# Altium footprint library Connector_Phoenix_MSTB.PcbLib: 180 footprints (part 7 of 12)
Each footprint in its own frame and in the unit in brackets; x right, y up, seen from the top. Pads: shape width x height; smd on the part's side, far side on the other; paste and mask are expansions set on the pad; w line width, h text height; cw(c..) or ccw(c..) is an arc to the next point about the centre after c.
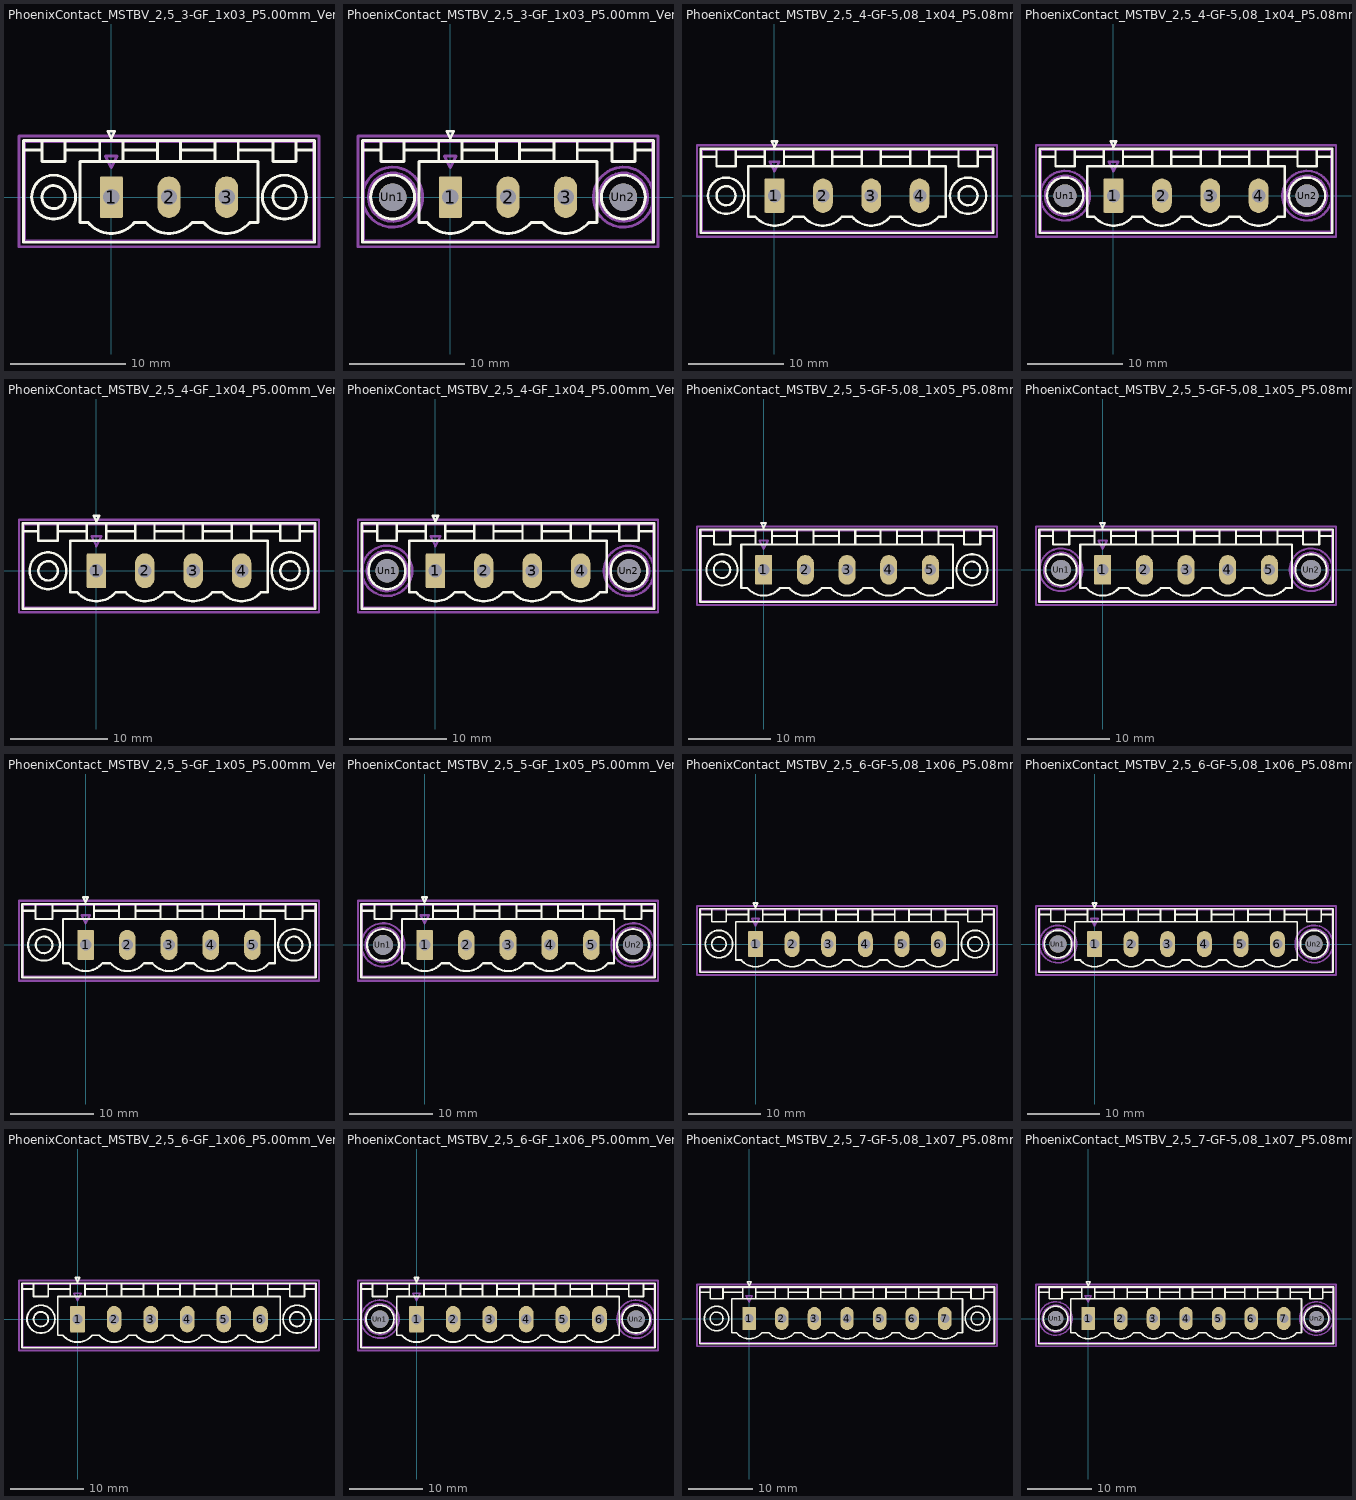
[diagram p6: the footprints below, top view; thin cyan lines are the x and y axes]

## PhoenixContact_MSTBV_2,5_3-GF_1x03_P5.00mm_Vertical_ThreadedFlange [mm]
pads (3):
  rrect12% 2x3.6 hole 1.4: 1(0,0)
  rrect100% 2x3.6 hole 1.4: 2(5,0) 3(10,0)
F.SilkS:
  circle w0.254: c15,0 r1.9
  circle w0.254: c15,0 r1
  circle w0.254: c-5,0 r1.9
  circle w0.254: c-5,0 r1
  lines w0.254: -7.61,4.1 -6.11,4.1 ; -4,4.1 -1,4.1 ; 1,4.1 4,4.1 ; 1.987,-2.216 cw(c0,-0.55) -2,-2.2 -2.7,-2.2 -2.7,3.1 12.7,3.1 12.7,-2.2 12,-2.2 ; 2,-2.2 3,-2.2 ccw(c5,-0.55) 6.987,-2.216 ; 6,4.1 9,4.1 ; 7,-2.2 8,-2.2 ccw(c10,-0.55) 11.987,-2.216 ; 11,4.1 14,4.1 ; 16.11,4.1 17.61,4.1 ; -7.61,-3.91 17.61,-3.91 17.61,4.91 -7.61,4.91 -7.61,-3.91 ; -6,3.1 -4,3.1 -4,4.91 -6,4.91 -6,3.1 ; -1,3.1 1,3.1 1,4.91 -1,4.91 -1,3.1 ; -0.3,5.71 0,5.11 0.3,5.71 -0.3,5.71 ; 4,3.1 6,3.1 6,4.91 4,4.91 4,3.1 ; 9,3.1 11,3.1 11,4.91 9,4.91 9,3.1 ; 14,3.1 16,3.1 16,4.91 14,4.91 14,3.1
Top Assembly:
  lines w0.254: -7.5,-3.8 17.5,-3.8 17.5,4.8 -7.5,4.8 -7.5,-3.8 ; -0.5,3.55 0,2.55 0.5,3.55 -0.5,3.55
  text "'.Designator'" at 0.953,3.26 h1
Top Courtyard:
  lines w0.254: -8,-4.3 18,-4.3 18,5.3 -8,5.3 -8,-4.3
Top Designator:
  text ".Designator" at -2.618,0.197 h1.52

## PhoenixContact_MSTBV_2,5_3-GF_1x03_P5.00mm_Vertical_ThreadedFlange_MountHole [mm]
pads (5):
  rrect12% 2x3.6 hole 1.4: 1(0,0)
  rrect100% 2x3.6 hole 1.4: 2(5,0) 3(10,0)
  round 2.4 hole 2.4: Un1(-5,0) Un2(15,0)
F.SilkS:
  circle w0.254: c15,0 r1.9
  circle w0.254: c-5,0 r1.9
  lines w0.254: -7.61,4.1 -6.11,4.1 ; -4,4.1 -1,4.1 ; 1,4.1 4,4.1 ; 1.987,-2.216 cw(c0,-0.55) -2,-2.2 -2.7,-2.2 -2.7,3.1 12.7,3.1 12.7,-2.2 12,-2.2 ; 2,-2.2 3,-2.2 ccw(c5,-0.55) 6.987,-2.216 ; 6,4.1 9,4.1 ; 7,-2.2 8,-2.2 ccw(c10,-0.55) 11.987,-2.216 ; 11,4.1 14,4.1 ; 16.11,4.1 17.61,4.1 ; -7.61,-3.91 17.61,-3.91 17.61,4.91 -7.61,4.91 -7.61,-3.91 ; -6,3.1 -4,3.1 -4,4.91 -6,4.91 -6,3.1 ; -1,3.1 1,3.1 1,4.91 -1,4.91 -1,3.1 ; -0.3,5.71 0,5.11 0.3,5.71 -0.3,5.71 ; 4,3.1 6,3.1 6,4.91 4,4.91 4,3.1 ; 9,3.1 11,3.1 11,4.91 9,4.91 9,3.1 ; 14,3.1 16,3.1 16,4.91 14,4.91 14,3.1
B.SilkS:
  circle w0.254: c15,0 r2.21
  circle w0.254: c-5,0 r2.21
Top Assembly:
  lines w0.254: -7.5,-3.8 17.5,-3.8 17.5,4.8 -7.5,4.8 -7.5,-3.8 ; -0.5,3.55 0,2.55 0.5,3.55 -0.5,3.55
  text "'.Designator'" at 0.953,3.26 h1
Bottom Assembly:
  circle w0.254: c15,0 r2.1
  circle w0.254: c-5,0 r2.1
Top Courtyard:
  lines w0.254: -8,-4.3 18,-4.3 18,5.3 -8,5.3 -8,-4.3
Bottom Courtyard:
  circle w0.254: c15,0 r2.6
  circle w0.254: c-5,0 r2.6
Top Designator:
  text ".Designator" at -2.618,0.197 h1.52

## PhoenixContact_MSTBV_2,5_4-GF-5,08_1x04_P5.08mm_Vertical_ThreadedFlange [mm]
pads (4):
  rrect12% 2.08x3.6 hole 1.4: 1(0,0)
  rrect100% 2.08x3.6 hole 1.4: 2(5.08,0) 3(10.16,0) 4(15.24,0)
F.SilkS:
  circle w0.254: c20.32,0 r1.9
  circle w0.254: c20.32,0 r1
  circle w0.254: c-5.08,0 r1.9
  circle w0.254: c-5.08,0 r1
  lines w0.254: -7.73,4.1 -6.19,4.1 ; -4.08,4.1 -1,4.1 ; 1,4.1 4.08,4.1 ; 1.987,-2.216 cw(c0,-0.55) -2,-2.2 -2.74,-2.2 -2.74,3.1 17.98,3.1 17.98,-2.2 17.24,-2.2 ; 2,-2.2 3.08,-2.2 ccw(c5.08,-0.55) 7.067,-2.216 ; 6.08,4.1 9.16,4.1 ; 7.08,-2.2 8.16,-2.2 ccw(c10.16,-0.55) 12.147,-2.216 ; 11.16,4.1 14.24,4.1 ; 12.16,-2.2 13.24,-2.2 ccw(c15.24,-0.55) 17.227,-2.216 ; 16.24,4.1 19.32,4.1 ; 21.43,4.1 22.97,4.1 ; -7.73,-3.91 22.97,-3.91 22.97,4.91 -7.73,4.91 -7.73,-3.91 ; -6.08,3.1 -4.08,3.1 -4.08,4.91 -6.08,4.91 -6.08,3.1 ; -1,3.1 1,3.1 1,4.91 -1,4.91 -1,3.1 ; -0.3,5.71 0,5.11 0.3,5.71 -0.3,5.71 ; 4.08,3.1 6.08,3.1 6.08,4.91 4.08,4.91 4.08,3.1 ; 9.16,3.1 11.16,3.1 11.16,4.91 9.16,4.91 9.16,3.1 ; 14.24,3.1 16.24,3.1 16.24,4.91 14.24,4.91 14.24,3.1 ; 19.32,3.1 21.32,3.1 21.32,4.91 19.32,4.91 19.32,3.1
Top Assembly:
  lines w0.254: -7.62,-3.8 22.86,-3.8 22.86,4.8 -7.62,4.8 -7.62,-3.8 ; -0.5,3.55 0,2.55 0.5,3.55 -0.5,3.55
  text "'.Designator'" at 3.573,3.26 h1
Top Courtyard:
  lines w0.254: -8.13,-4.3 23.36,-4.3 23.36,5.3 -8.13,5.3 -8.13,-4.3
Top Designator:
  text ".Designator" at -0.003,0.197 h1.52

## PhoenixContact_MSTBV_2,5_4-GF-5,08_1x04_P5.08mm_Vertical_ThreadedFlange_MountHole [mm]
pads (6):
  rrect12% 2.08x3.6 hole 1.4: 1(0,0)
  rrect100% 2.08x3.6 hole 1.4: 2(5.08,0) 3(10.16,0) 4(15.24,0)
  round 2.4 hole 2.4: Un1(-5.08,0) Un2(20.32,0)
F.SilkS:
  circle w0.254: c20.32,0 r1.9
  circle w0.254: c-5.08,0 r1.9
  lines w0.254: -7.73,4.1 -6.19,4.1 ; -4.08,4.1 -1,4.1 ; 1,4.1 4.08,4.1 ; 1.987,-2.216 cw(c0,-0.55) -2,-2.2 -2.74,-2.2 -2.74,3.1 17.98,3.1 17.98,-2.2 17.24,-2.2 ; 2,-2.2 3.08,-2.2 ccw(c5.08,-0.55) 7.067,-2.216 ; 6.08,4.1 9.16,4.1 ; 7.08,-2.2 8.16,-2.2 ccw(c10.16,-0.55) 12.147,-2.216 ; 11.16,4.1 14.24,4.1 ; 12.16,-2.2 13.24,-2.2 ccw(c15.24,-0.55) 17.227,-2.216 ; 16.24,4.1 19.32,4.1 ; 21.43,4.1 22.97,4.1 ; -7.73,-3.91 22.97,-3.91 22.97,4.91 -7.73,4.91 -7.73,-3.91 ; -6.08,3.1 -4.08,3.1 -4.08,4.91 -6.08,4.91 -6.08,3.1 ; -1,3.1 1,3.1 1,4.91 -1,4.91 -1,3.1 ; -0.3,5.71 0,5.11 0.3,5.71 -0.3,5.71 ; 4.08,3.1 6.08,3.1 6.08,4.91 4.08,4.91 4.08,3.1 ; 9.16,3.1 11.16,3.1 11.16,4.91 9.16,4.91 9.16,3.1 ; 14.24,3.1 16.24,3.1 16.24,4.91 14.24,4.91 14.24,3.1 ; 19.32,3.1 21.32,3.1 21.32,4.91 19.32,4.91 19.32,3.1
B.SilkS:
  circle w0.254: c20.32,0 r2.21
  circle w0.254: c-5.08,0 r2.21
Top Assembly:
  lines w0.254: -7.62,-3.8 22.86,-3.8 22.86,4.8 -7.62,4.8 -7.62,-3.8 ; -0.5,3.55 0,2.55 0.5,3.55 -0.5,3.55
  text "'.Designator'" at 3.573,3.26 h1
Bottom Assembly:
  circle w0.254: c20.32,0 r2.1
  circle w0.254: c-5.08,0 r2.1
Top Courtyard:
  lines w0.254: -8.13,-4.3 23.36,-4.3 23.36,5.3 -8.13,5.3 -8.13,-4.3
Bottom Courtyard:
  circle w0.254: c20.32,0 r2.6
  circle w0.254: c-5.08,0 r2.6
Top Designator:
  text ".Designator" at -0.003,0.197 h1.52

## PhoenixContact_MSTBV_2,5_4-GF_1x04_P5.00mm_Vertical_ThreadedFlange [mm]
pads (4):
  rrect12% 2x3.6 hole 1.4: 1(0,0)
  rrect100% 2x3.6 hole 1.4: 2(5,0) 3(10,0) 4(15,0)
F.SilkS:
  circle w0.254: c20,0 r1.9
  circle w0.254: c20,0 r1
  circle w0.254: c-5,0 r1.9
  circle w0.254: c-5,0 r1
  lines w0.254: -7.61,4.1 -6.11,4.1 ; -4,4.1 -1,4.1 ; 1,4.1 4,4.1 ; 1.987,-2.216 cw(c0,-0.55) -2,-2.2 -2.7,-2.2 -2.7,3.1 17.7,3.1 17.7,-2.2 17,-2.2 ; 2,-2.2 3,-2.2 ccw(c5,-0.55) 6.987,-2.216 ; 6,4.1 9,4.1 ; 7,-2.2 8,-2.2 ccw(c10,-0.55) 11.987,-2.216 ; 11,4.1 14,4.1 ; 12,-2.2 13,-2.2 ccw(c15,-0.55) 16.987,-2.216 ; 16,4.1 19,4.1 ; 21.11,4.1 22.61,4.1 ; -7.61,-3.91 22.61,-3.91 22.61,4.91 -7.61,4.91 -7.61,-3.91 ; -6,3.1 -4,3.1 -4,4.91 -6,4.91 -6,3.1 ; -1,3.1 1,3.1 1,4.91 -1,4.91 -1,3.1 ; -0.3,5.71 0,5.11 0.3,5.71 -0.3,5.71 ; 4,3.1 6,3.1 6,4.91 4,4.91 4,3.1 ; 9,3.1 11,3.1 11,4.91 9,4.91 9,3.1 ; 14,3.1 16,3.1 16,4.91 14,4.91 14,3.1 ; 19,3.1 21,3.1 21,4.91 19,4.91 19,3.1
Top Assembly:
  lines w0.254: -7.5,-3.8 22.5,-3.8 22.5,4.8 -7.5,4.8 -7.5,-3.8 ; -0.5,3.55 0,2.55 0.5,3.55 -0.5,3.55
  text "'.Designator'" at 3.453,3.26 h1
Top Courtyard:
  lines w0.254: -8,-4.3 23,-4.3 23,5.3 -8,5.3 -8,-4.3
Top Designator:
  text ".Designator" at -0.118,0.197 h1.52

## PhoenixContact_MSTBV_2,5_4-GF_1x04_P5.00mm_Vertical_ThreadedFlange_MountHole [mm]
pads (6):
  rrect12% 2x3.6 hole 1.4: 1(0,0)
  rrect100% 2x3.6 hole 1.4: 2(5,0) 3(10,0) 4(15,0)
  round 2.4 hole 2.4: Un1(-5,0) Un2(20,0)
F.SilkS:
  circle w0.254: c20,0 r1.9
  circle w0.254: c-5,0 r1.9
  lines w0.254: -7.61,4.1 -6.11,4.1 ; -4,4.1 -1,4.1 ; 1,4.1 4,4.1 ; 1.987,-2.216 cw(c0,-0.55) -2,-2.2 -2.7,-2.2 -2.7,3.1 17.7,3.1 17.7,-2.2 17,-2.2 ; 2,-2.2 3,-2.2 ccw(c5,-0.55) 6.987,-2.216 ; 6,4.1 9,4.1 ; 7,-2.2 8,-2.2 ccw(c10,-0.55) 11.987,-2.216 ; 11,4.1 14,4.1 ; 12,-2.2 13,-2.2 ccw(c15,-0.55) 16.987,-2.216 ; 16,4.1 19,4.1 ; 21.11,4.1 22.61,4.1 ; -7.61,-3.91 22.61,-3.91 22.61,4.91 -7.61,4.91 -7.61,-3.91 ; -6,3.1 -4,3.1 -4,4.91 -6,4.91 -6,3.1 ; -1,3.1 1,3.1 1,4.91 -1,4.91 -1,3.1 ; -0.3,5.71 0,5.11 0.3,5.71 -0.3,5.71 ; 4,3.1 6,3.1 6,4.91 4,4.91 4,3.1 ; 9,3.1 11,3.1 11,4.91 9,4.91 9,3.1 ; 14,3.1 16,3.1 16,4.91 14,4.91 14,3.1 ; 19,3.1 21,3.1 21,4.91 19,4.91 19,3.1
B.SilkS:
  circle w0.254: c20,0 r2.21
  circle w0.254: c-5,0 r2.21
Top Assembly:
  lines w0.254: -7.5,-3.8 22.5,-3.8 22.5,4.8 -7.5,4.8 -7.5,-3.8 ; -0.5,3.55 0,2.55 0.5,3.55 -0.5,3.55
  text "'.Designator'" at 3.453,3.26 h1
Bottom Assembly:
  circle w0.254: c20,0 r2.1
  circle w0.254: c-5,0 r2.1
Top Courtyard:
  lines w0.254: -8,-4.3 23,-4.3 23,5.3 -8,5.3 -8,-4.3
Bottom Courtyard:
  circle w0.254: c20,0 r2.6
  circle w0.254: c-5,0 r2.6
Top Designator:
  text ".Designator" at -0.118,0.197 h1.52

## PhoenixContact_MSTBV_2,5_5-GF-5,08_1x05_P5.08mm_Vertical_ThreadedFlange [mm]
pads (5):
  rrect12% 2.08x3.6 hole 1.4: 1(0,0)
  rrect100% 2.08x3.6 hole 1.4: 2(5.08,0) 3(10.16,0) 4(15.24,0) 5(20.32,0)
F.SilkS:
  circle w0.254: c25.4,0 r1.9
  circle w0.254: c25.4,0 r1
  circle w0.254: c-5.08,0 r1.9
  circle w0.254: c-5.08,0 r1
  lines w0.254: -7.73,4.1 -6.19,4.1 ; -4.08,4.1 -1,4.1 ; 1,4.1 4.08,4.1 ; 1.987,-2.216 cw(c0,-0.55) -2,-2.2 -2.74,-2.2 -2.74,3.1 23.06,3.1 23.06,-2.2 22.32,-2.2 ; 2,-2.2 3.08,-2.2 ccw(c5.08,-0.55) 7.067,-2.216 ; 6.08,4.1 9.16,4.1 ; 7.08,-2.2 8.16,-2.2 ccw(c10.16,-0.55) 12.147,-2.216 ; 11.16,4.1 14.24,4.1 ; 12.16,-2.2 13.24,-2.2 ccw(c15.24,-0.55) 17.227,-2.216 ; 16.24,4.1 19.32,4.1 ; 17.24,-2.2 18.32,-2.2 ccw(c20.32,-0.55) 22.307,-2.216 ; 21.32,4.1 24.4,4.1 ; 26.51,4.1 28.05,4.1 ; -7.73,-3.91 28.05,-3.91 28.05,4.91 -7.73,4.91 -7.73,-3.91 ; -6.08,3.1 -4.08,3.1 -4.08,4.91 -6.08,4.91 -6.08,3.1 ; -1,3.1 1,3.1 1,4.91 -1,4.91 -1,3.1 ; -0.3,5.71 0,5.11 0.3,5.71 -0.3,5.71 ; 4.08,3.1 6.08,3.1 6.08,4.91 4.08,4.91 4.08,3.1 ; 9.16,3.1 11.16,3.1 11.16,4.91 9.16,4.91 9.16,3.1 ; 14.24,3.1 16.24,3.1 16.24,4.91 14.24,4.91 14.24,3.1 ; 19.32,3.1 21.32,3.1 21.32,4.91 19.32,4.91 19.32,3.1 ; 24.4,3.1 26.4,3.1 26.4,4.91 24.4,4.91 24.4,3.1
Top Assembly:
  lines w0.254: -7.62,-3.8 27.94,-3.8 27.94,4.8 -7.62,4.8 -7.62,-3.8 ; -0.5,3.55 0,2.55 0.5,3.55 -0.5,3.55
  text "'.Designator'" at 6.113,3.26 h1
Top Courtyard:
  lines w0.254: -8.13,-4.3 28.44,-4.3 28.44,5.3 -8.13,5.3 -8.13,-4.3
Top Designator:
  text ".Designator" at 2.537,0.197 h1.52

## PhoenixContact_MSTBV_2,5_5-GF-5,08_1x05_P5.08mm_Vertical_ThreadedFlange_MountHole [mm]
pads (7):
  rrect12% 2.08x3.6 hole 1.4: 1(0,0)
  rrect100% 2.08x3.6 hole 1.4: 2(5.08,0) 3(10.16,0) 4(15.24,0) 5(20.32,0)
  round 2.4 hole 2.4: Un1(-5.08,0) Un2(25.4,0)
F.SilkS:
  circle w0.254: c25.4,0 r1.9
  circle w0.254: c-5.08,0 r1.9
  lines w0.254: -7.73,4.1 -6.19,4.1 ; -4.08,4.1 -1,4.1 ; 1,4.1 4.08,4.1 ; 1.987,-2.216 cw(c0,-0.55) -2,-2.2 -2.74,-2.2 -2.74,3.1 23.06,3.1 23.06,-2.2 22.32,-2.2 ; 2,-2.2 3.08,-2.2 ccw(c5.08,-0.55) 7.067,-2.216 ; 6.08,4.1 9.16,4.1 ; 7.08,-2.2 8.16,-2.2 ccw(c10.16,-0.55) 12.147,-2.216 ; 11.16,4.1 14.24,4.1 ; 12.16,-2.2 13.24,-2.2 ccw(c15.24,-0.55) 17.227,-2.216 ; 16.24,4.1 19.32,4.1 ; 17.24,-2.2 18.32,-2.2 ccw(c20.32,-0.55) 22.307,-2.216 ; 21.32,4.1 24.4,4.1 ; 26.51,4.1 28.05,4.1 ; -7.73,-3.91 28.05,-3.91 28.05,4.91 -7.73,4.91 -7.73,-3.91 ; -6.08,3.1 -4.08,3.1 -4.08,4.91 -6.08,4.91 -6.08,3.1 ; -1,3.1 1,3.1 1,4.91 -1,4.91 -1,3.1 ; -0.3,5.71 0,5.11 0.3,5.71 -0.3,5.71 ; 4.08,3.1 6.08,3.1 6.08,4.91 4.08,4.91 4.08,3.1 ; 9.16,3.1 11.16,3.1 11.16,4.91 9.16,4.91 9.16,3.1 ; 14.24,3.1 16.24,3.1 16.24,4.91 14.24,4.91 14.24,3.1 ; 19.32,3.1 21.32,3.1 21.32,4.91 19.32,4.91 19.32,3.1 ; 24.4,3.1 26.4,3.1 26.4,4.91 24.4,4.91 24.4,3.1
B.SilkS:
  circle w0.254: c25.4,0 r2.21
  circle w0.254: c-5.08,0 r2.21
Top Assembly:
  lines w0.254: -7.62,-3.8 27.94,-3.8 27.94,4.8 -7.62,4.8 -7.62,-3.8 ; -0.5,3.55 0,2.55 0.5,3.55 -0.5,3.55
  text "'.Designator'" at 6.113,3.26 h1
Bottom Assembly:
  circle w0.254: c25.4,0 r2.1
  circle w0.254: c-5.08,0 r2.1
Top Courtyard:
  lines w0.254: -8.13,-4.3 28.44,-4.3 28.44,5.3 -8.13,5.3 -8.13,-4.3
Bottom Courtyard:
  circle w0.254: c25.4,0 r2.6
  circle w0.254: c-5.08,0 r2.6
Top Designator:
  text ".Designator" at 2.537,0.197 h1.52

## PhoenixContact_MSTBV_2,5_5-GF_1x05_P5.00mm_Vertical_ThreadedFlange [mm]
pads (5):
  rrect12% 2x3.6 hole 1.4: 1(0,0)
  rrect100% 2x3.6 hole 1.4: 2(5,0) 3(10,0) 4(15,0) 5(20,0)
F.SilkS:
  circle w0.254: c25,0 r1.9
  circle w0.254: c25,0 r1
  circle w0.254: c-5,0 r1.9
  circle w0.254: c-5,0 r1
  lines w0.254: -7.61,4.1 -6.11,4.1 ; -4,4.1 -1,4.1 ; 1,4.1 4,4.1 ; 1.987,-2.216 cw(c0,-0.55) -2,-2.2 -2.7,-2.2 -2.7,3.1 22.7,3.1 22.7,-2.2 22,-2.2 ; 2,-2.2 3,-2.2 ccw(c5,-0.55) 6.987,-2.216 ; 6,4.1 9,4.1 ; 7,-2.2 8,-2.2 ccw(c10,-0.55) 11.987,-2.216 ; 11,4.1 14,4.1 ; 12,-2.2 13,-2.2 ccw(c15,-0.55) 16.987,-2.216 ; 16,4.1 19,4.1 ; 17,-2.2 18,-2.2 ccw(c20,-0.55) 21.987,-2.216 ; 21,4.1 24,4.1 ; 26.11,4.1 27.61,4.1 ; -7.61,-3.91 27.61,-3.91 27.61,4.91 -7.61,4.91 -7.61,-3.91 ; -6,3.1 -4,3.1 -4,4.91 -6,4.91 -6,3.1 ; -1,3.1 1,3.1 1,4.91 -1,4.91 -1,3.1 ; -0.3,5.71 0,5.11 0.3,5.71 -0.3,5.71 ; 4,3.1 6,3.1 6,4.91 4,4.91 4,3.1 ; 9,3.1 11,3.1 11,4.91 9,4.91 9,3.1 ; 14,3.1 16,3.1 16,4.91 14,4.91 14,3.1 ; 19,3.1 21,3.1 21,4.91 19,4.91 19,3.1 ; 24,3.1 26,3.1 26,4.91 24,4.91 24,3.1
Top Assembly:
  lines w0.254: -7.5,-3.8 27.5,-3.8 27.5,4.8 -7.5,4.8 -7.5,-3.8 ; -0.5,3.55 0,2.55 0.5,3.55 -0.5,3.55
  text "'.Designator'" at 5.953,3.26 h1
Top Courtyard:
  lines w0.254: -8,-4.3 28,-4.3 28,5.3 -8,5.3 -8,-4.3
Top Designator:
  text ".Designator" at 2.382,0.197 h1.52

## PhoenixContact_MSTBV_2,5_5-GF_1x05_P5.00mm_Vertical_ThreadedFlange_MountHole [mm]
pads (7):
  rrect12% 2x3.6 hole 1.4: 1(0,0)
  rrect100% 2x3.6 hole 1.4: 2(5,0) 3(10,0) 4(15,0) 5(20,0)
  round 2.4 hole 2.4: Un1(-5,0) Un2(25,0)
F.SilkS:
  circle w0.254: c25,0 r1.9
  circle w0.254: c-5,0 r1.9
  lines w0.254: -7.61,4.1 -6.11,4.1 ; -4,4.1 -1,4.1 ; 1,4.1 4,4.1 ; 1.987,-2.216 cw(c0,-0.55) -2,-2.2 -2.7,-2.2 -2.7,3.1 22.7,3.1 22.7,-2.2 22,-2.2 ; 2,-2.2 3,-2.2 ccw(c5,-0.55) 6.987,-2.216 ; 6,4.1 9,4.1 ; 7,-2.2 8,-2.2 ccw(c10,-0.55) 11.987,-2.216 ; 11,4.1 14,4.1 ; 12,-2.2 13,-2.2 ccw(c15,-0.55) 16.987,-2.216 ; 16,4.1 19,4.1 ; 17,-2.2 18,-2.2 ccw(c20,-0.55) 21.987,-2.216 ; 21,4.1 24,4.1 ; 26.11,4.1 27.61,4.1 ; -7.61,-3.91 27.61,-3.91 27.61,4.91 -7.61,4.91 -7.61,-3.91 ; -6,3.1 -4,3.1 -4,4.91 -6,4.91 -6,3.1 ; -1,3.1 1,3.1 1,4.91 -1,4.91 -1,3.1 ; -0.3,5.71 0,5.11 0.3,5.71 -0.3,5.71 ; 4,3.1 6,3.1 6,4.91 4,4.91 4,3.1 ; 9,3.1 11,3.1 11,4.91 9,4.91 9,3.1 ; 14,3.1 16,3.1 16,4.91 14,4.91 14,3.1 ; 19,3.1 21,3.1 21,4.91 19,4.91 19,3.1 ; 24,3.1 26,3.1 26,4.91 24,4.91 24,3.1
B.SilkS:
  circle w0.254: c25,0 r2.21
  circle w0.254: c-5,0 r2.21
Top Assembly:
  lines w0.254: -7.5,-3.8 27.5,-3.8 27.5,4.8 -7.5,4.8 -7.5,-3.8 ; -0.5,3.55 0,2.55 0.5,3.55 -0.5,3.55
  text "'.Designator'" at 5.953,3.26 h1
Bottom Assembly:
  circle w0.254: c25,0 r2.1
  circle w0.254: c-5,0 r2.1
Top Courtyard:
  lines w0.254: -8,-4.3 28,-4.3 28,5.3 -8,5.3 -8,-4.3
Bottom Courtyard:
  circle w0.254: c25,0 r2.6
  circle w0.254: c-5,0 r2.6
Top Designator:
  text ".Designator" at 2.382,0.197 h1.52

## PhoenixContact_MSTBV_2,5_6-GF-5,08_1x06_P5.08mm_Vertical_ThreadedFlange [mm]
pads (6):
  rrect12% 2.08x3.6 hole 1.4: 1(0,0)
  rrect100% 2.08x3.6 hole 1.4: 2(5.08,0) 3(10.16,0) 4(15.24,0) 5(20.32,0) 6(25.4,0)
F.SilkS:
  circle w0.254: c30.48,0 r1.9
  circle w0.254: c30.48,0 r1
  circle w0.254: c-5.08,0 r1.9
  circle w0.254: c-5.08,0 r1
  lines w0.254: -7.73,4.1 -6.19,4.1 ; -4.08,4.1 -1,4.1 ; 1,4.1 4.08,4.1 ; 1.987,-2.216 cw(c0,-0.55) -2,-2.2 -2.74,-2.2 -2.74,3.1 28.14,3.1 28.14,-2.2 27.4,-2.2 ; 2,-2.2 3.08,-2.2 ccw(c5.08,-0.55) 7.067,-2.216 ; 6.08,4.1 9.16,4.1 ; 7.08,-2.2 8.16,-2.2 ccw(c10.16,-0.55) 12.147,-2.216 ; 11.16,4.1 14.24,4.1 ; 12.16,-2.2 13.24,-2.2 ccw(c15.24,-0.55) 17.227,-2.216 ; 16.24,4.1 19.32,4.1 ; 17.24,-2.2 18.32,-2.2 ccw(c20.32,-0.55) 22.307,-2.216 ; 21.32,4.1 24.4,4.1 ; 22.32,-2.2 23.4,-2.2 ccw(c25.4,-0.55) 27.387,-2.216 ; 26.4,4.1 29.48,4.1 ; 31.59,4.1 33.13,4.1 ; -7.73,-3.91 33.13,-3.91 33.13,4.91 -7.73,4.91 -7.73,-3.91 ; -6.08,3.1 -4.08,3.1 -4.08,4.91 -6.08,4.91 -6.08,3.1 ; -1,3.1 1,3.1 1,4.91 -1,4.91 -1,3.1 ; -0.3,5.71 0,5.11 0.3,5.71 -0.3,5.71 ; 4.08,3.1 6.08,3.1 6.08,4.91 4.08,4.91 4.08,3.1 ; 9.16,3.1 11.16,3.1 11.16,4.91 9.16,4.91 9.16,3.1 ; 14.24,3.1 16.24,3.1 16.24,4.91 14.24,4.91 14.24,3.1 ; 19.32,3.1 21.32,3.1 21.32,4.91 19.32,4.91 19.32,3.1 ; 24.4,3.1 26.4,3.1 26.4,4.91 24.4,4.91 24.4,3.1 ; 29.48,3.1 31.48,3.1 31.48,4.91 29.48,4.91 29.48,3.1
Top Assembly:
  lines w0.254: -7.62,-3.8 33.02,-3.8 33.02,4.8 -7.62,4.8 -7.62,-3.8 ; -0.5,3.55 0,2.55 0.5,3.55 -0.5,3.55
  text "'.Designator'" at 8.653,3.26 h1
Top Courtyard:
  lines w0.254: -8.13,-4.3 33.53,-4.3 33.53,5.3 -8.13,5.3 -8.13,-4.3
Top Designator:
  text ".Designator" at 5.082,0.197 h1.52

## PhoenixContact_MSTBV_2,5_6-GF-5,08_1x06_P5.08mm_Vertical_ThreadedFlange_MountHole [mm]
pads (8):
  rrect12% 2.08x3.6 hole 1.4: 1(0,0)
  rrect100% 2.08x3.6 hole 1.4: 2(5.08,0) 3(10.16,0) 4(15.24,0) 5(20.32,0) 6(25.4,0)
  round 2.4 hole 2.4: Un1(-5.08,0) Un2(30.48,0)
F.SilkS:
  circle w0.254: c30.48,0 r1.9
  circle w0.254: c-5.08,0 r1.9
  lines w0.254: -7.73,4.1 -6.19,4.1 ; -4.08,4.1 -1,4.1 ; 1,4.1 4.08,4.1 ; 1.987,-2.216 cw(c0,-0.55) -2,-2.2 -2.74,-2.2 -2.74,3.1 28.14,3.1 28.14,-2.2 27.4,-2.2 ; 2,-2.2 3.08,-2.2 ccw(c5.08,-0.55) 7.067,-2.216 ; 6.08,4.1 9.16,4.1 ; 7.08,-2.2 8.16,-2.2 ccw(c10.16,-0.55) 12.147,-2.216 ; 11.16,4.1 14.24,4.1 ; 12.16,-2.2 13.24,-2.2 ccw(c15.24,-0.55) 17.227,-2.216 ; 16.24,4.1 19.32,4.1 ; 17.24,-2.2 18.32,-2.2 ccw(c20.32,-0.55) 22.307,-2.216 ; 21.32,4.1 24.4,4.1 ; 22.32,-2.2 23.4,-2.2 ccw(c25.4,-0.55) 27.387,-2.216 ; 26.4,4.1 29.48,4.1 ; 31.59,4.1 33.13,4.1 ; -7.73,-3.91 33.13,-3.91 33.13,4.91 -7.73,4.91 -7.73,-3.91 ; -6.08,3.1 -4.08,3.1 -4.08,4.91 -6.08,4.91 -6.08,3.1 ; -1,3.1 1,3.1 1,4.91 -1,4.91 -1,3.1 ; -0.3,5.71 0,5.11 0.3,5.71 -0.3,5.71 ; 4.08,3.1 6.08,3.1 6.08,4.91 4.08,4.91 4.08,3.1 ; 9.16,3.1 11.16,3.1 11.16,4.91 9.16,4.91 9.16,3.1 ; 14.24,3.1 16.24,3.1 16.24,4.91 14.24,4.91 14.24,3.1 ; 19.32,3.1 21.32,3.1 21.32,4.91 19.32,4.91 19.32,3.1 ; 24.4,3.1 26.4,3.1 26.4,4.91 24.4,4.91 24.4,3.1 ; 29.48,3.1 31.48,3.1 31.48,4.91 29.48,4.91 29.48,3.1
B.SilkS:
  circle w0.254: c30.48,0 r2.21
  circle w0.254: c-5.08,0 r2.21
Top Assembly:
  lines w0.254: -7.62,-3.8 33.02,-3.8 33.02,4.8 -7.62,4.8 -7.62,-3.8 ; -0.5,3.55 0,2.55 0.5,3.55 -0.5,3.55
  text "'.Designator'" at 8.653,3.26 h1
Bottom Assembly:
  circle w0.254: c30.48,0 r2.1
  circle w0.254: c-5.08,0 r2.1
Top Courtyard:
  lines w0.254: -8.13,-4.3 33.53,-4.3 33.53,5.3 -8.13,5.3 -8.13,-4.3
Bottom Courtyard:
  circle w0.254: c30.48,0 r2.6
  circle w0.254: c-5.08,0 r2.6
Top Designator:
  text ".Designator" at 5.082,0.197 h1.52

## PhoenixContact_MSTBV_2,5_6-GF_1x06_P5.00mm_Vertical_ThreadedFlange [mm]
pads (6):
  rrect12% 2x3.6 hole 1.4: 1(0,0)
  rrect100% 2x3.6 hole 1.4: 2(5,0) 3(10,0) 4(15,0) 5(20,0) 6(25,0)
F.SilkS:
  circle w0.254: c30,0 r1.9
  circle w0.254: c30,0 r1
  circle w0.254: c-5,0 r1.9
  circle w0.254: c-5,0 r1
  lines w0.254: -7.61,4.1 -6.11,4.1 ; -4,4.1 -1,4.1 ; 1,4.1 4,4.1 ; 1.987,-2.216 cw(c0,-0.55) -2,-2.2 -2.7,-2.2 -2.7,3.1 27.7,3.1 27.7,-2.2 27,-2.2 ; 2,-2.2 3,-2.2 ccw(c5,-0.55) 6.987,-2.216 ; 6,4.1 9,4.1 ; 7,-2.2 8,-2.2 ccw(c10,-0.55) 11.987,-2.216 ; 11,4.1 14,4.1 ; 12,-2.2 13,-2.2 ccw(c15,-0.55) 16.987,-2.216 ; 16,4.1 19,4.1 ; 17,-2.2 18,-2.2 ccw(c20,-0.55) 21.987,-2.216 ; 21,4.1 24,4.1 ; 22,-2.2 23,-2.2 ccw(c25,-0.55) 26.987,-2.216 ; 26,4.1 29,4.1 ; 31.11,4.1 32.61,4.1 ; -7.61,-3.91 32.61,-3.91 32.61,4.91 -7.61,4.91 -7.61,-3.91 ; -6,3.1 -4,3.1 -4,4.91 -6,4.91 -6,3.1 ; -1,3.1 1,3.1 1,4.91 -1,4.91 -1,3.1 ; -0.3,5.71 0,5.11 0.3,5.71 -0.3,5.71 ; 4,3.1 6,3.1 6,4.91 4,4.91 4,3.1 ; 9,3.1 11,3.1 11,4.91 9,4.91 9,3.1 ; 14,3.1 16,3.1 16,4.91 14,4.91 14,3.1 ; 19,3.1 21,3.1 21,4.91 19,4.91 19,3.1 ; 24,3.1 26,3.1 26,4.91 24,4.91 24,3.1 ; 29,3.1 31,3.1 31,4.91 29,4.91 29,3.1
Top Assembly:
  lines w0.254: -7.5,-3.8 32.5,-3.8 32.5,4.8 -7.5,4.8 -7.5,-3.8 ; -0.5,3.55 0,2.55 0.5,3.55 -0.5,3.55
  text "'.Designator'" at 8.453,3.26 h1
Top Courtyard:
  lines w0.254: -8,-4.3 33,-4.3 33,5.3 -8,5.3 -8,-4.3
Top Designator:
  text ".Designator" at 4.882,0.197 h1.52

## PhoenixContact_MSTBV_2,5_6-GF_1x06_P5.00mm_Vertical_ThreadedFlange_MountHole [mm]
pads (8):
  rrect12% 2x3.6 hole 1.4: 1(0,0)
  rrect100% 2x3.6 hole 1.4: 2(5,0) 3(10,0) 4(15,0) 5(20,0) 6(25,0)
  round 2.4 hole 2.4: Un1(-5,0) Un2(30,0)
F.SilkS:
  circle w0.254: c30,0 r1.9
  circle w0.254: c-5,0 r1.9
  lines w0.254: -7.61,4.1 -6.11,4.1 ; -4,4.1 -1,4.1 ; 1,4.1 4,4.1 ; 1.987,-2.216 cw(c0,-0.55) -2,-2.2 -2.7,-2.2 -2.7,3.1 27.7,3.1 27.7,-2.2 27,-2.2 ; 2,-2.2 3,-2.2 ccw(c5,-0.55) 6.987,-2.216 ; 6,4.1 9,4.1 ; 7,-2.2 8,-2.2 ccw(c10,-0.55) 11.987,-2.216 ; 11,4.1 14,4.1 ; 12,-2.2 13,-2.2 ccw(c15,-0.55) 16.987,-2.216 ; 16,4.1 19,4.1 ; 17,-2.2 18,-2.2 ccw(c20,-0.55) 21.987,-2.216 ; 21,4.1 24,4.1 ; 22,-2.2 23,-2.2 ccw(c25,-0.55) 26.987,-2.216 ; 26,4.1 29,4.1 ; 31.11,4.1 32.61,4.1 ; -7.61,-3.91 32.61,-3.91 32.61,4.91 -7.61,4.91 -7.61,-3.91 ; -6,3.1 -4,3.1 -4,4.91 -6,4.91 -6,3.1 ; -1,3.1 1,3.1 1,4.91 -1,4.91 -1,3.1 ; -0.3,5.71 0,5.11 0.3,5.71 -0.3,5.71 ; 4,3.1 6,3.1 6,4.91 4,4.91 4,3.1 ; 9,3.1 11,3.1 11,4.91 9,4.91 9,3.1 ; 14,3.1 16,3.1 16,4.91 14,4.91 14,3.1 ; 19,3.1 21,3.1 21,4.91 19,4.91 19,3.1 ; 24,3.1 26,3.1 26,4.91 24,4.91 24,3.1 ; 29,3.1 31,3.1 31,4.91 29,4.91 29,3.1
B.SilkS:
  circle w0.254: c30,0 r2.21
  circle w0.254: c-5,0 r2.21
Top Assembly:
  lines w0.254: -7.5,-3.8 32.5,-3.8 32.5,4.8 -7.5,4.8 -7.5,-3.8 ; -0.5,3.55 0,2.55 0.5,3.55 -0.5,3.55
  text "'.Designator'" at 8.453,3.26 h1
Bottom Assembly:
  circle w0.254: c30,0 r2.1
  circle w0.254: c-5,0 r2.1
Top Courtyard:
  lines w0.254: -8,-4.3 33,-4.3 33,5.3 -8,5.3 -8,-4.3
Bottom Courtyard:
  circle w0.254: c30,0 r2.6
  circle w0.254: c-5,0 r2.6
Top Designator:
  text ".Designator" at 4.882,0.197 h1.52

## PhoenixContact_MSTBV_2,5_7-GF-5,08_1x07_P5.08mm_Vertical_ThreadedFlange [mm]
pads (7):
  rrect12% 2.08x3.6 hole 1.4: 1(0,0)
  rrect100% 2.08x3.6 hole 1.4: 2(5.08,0) 3(10.16,0) 4(15.24,0) 5(20.32,0) 6(25.4,0) 7(30.48,0)
F.SilkS:
  circle w0.254: c35.56,0 r1.9
  circle w0.254: c35.56,0 r1
  circle w0.254: c-5.08,0 r1.9
  circle w0.254: c-5.08,0 r1
  lines w0.254: -7.73,4.1 -6.19,4.1 ; -4.08,4.1 -1,4.1 ; 1,4.1 4.08,4.1 ; 1.987,-2.216 cw(c0,-0.55) -2,-2.2 -2.74,-2.2 -2.74,3.1 33.22,3.1 33.22,-2.2 32.48,-2.2 ; 2,-2.2 3.08,-2.2 ccw(c5.08,-0.55) 7.067,-2.216 ; 6.08,4.1 9.16,4.1 ; 7.08,-2.2 8.16,-2.2 ccw(c10.16,-0.55) 12.147,-2.216 ; 11.16,4.1 14.24,4.1 ; 12.16,-2.2 13.24,-2.2 ccw(c15.24,-0.55) 17.227,-2.216 ; 16.24,4.1 19.32,4.1 ; 17.24,-2.2 18.32,-2.2 ccw(c20.32,-0.55) 22.307,-2.216 ; 21.32,4.1 24.4,4.1 ; 22.32,-2.2 23.4,-2.2 ccw(c25.4,-0.55) 27.387,-2.216 ; 26.4,4.1 29.48,4.1 ; 27.4,-2.2 28.48,-2.2 ccw(c30.48,-0.55) 32.467,-2.216 ; 31.48,4.1 34.56,4.1 ; 36.67,4.1 38.21,4.1 ; -7.73,-3.91 38.21,-3.91 38.21,4.91 -7.73,4.91 -7.73,-3.91 ; -6.08,3.1 -4.08,3.1 -4.08,4.91 -6.08,4.91 -6.08,3.1 ; -1,3.1 1,3.1 1,4.91 -1,4.91 -1,3.1 ; -0.3,5.71 0,5.11 0.3,5.71 -0.3,5.71 ; 4.08,3.1 6.08,3.1 6.08,4.91 4.08,4.91 4.08,3.1 ; 9.16,3.1 11.16,3.1 11.16,4.91 9.16,4.91 9.16,3.1 ; 14.24,3.1 16.24,3.1 16.24,4.91 14.24,4.91 14.24,3.1 ; 19.32,3.1 21.32,3.1 21.32,4.91 19.32,4.91 19.32,3.1 ; 24.4,3.1 26.4,3.1 26.4,4.91 24.4,4.91 24.4,3.1 ; 29.48,3.1 31.48,3.1 31.48,4.91 29.48,4.91 29.48,3.1 ; 34.56,3.1 36.56,3.1 36.56,4.91 34.56,4.91 34.56,3.1
Top Assembly:
  lines w0.254: -7.62,-3.8 38.1,-3.8 38.1,4.8 -7.62,4.8 -7.62,-3.8 ; -0.5,3.55 0,2.55 0.5,3.55 -0.5,3.55
  text "'.Designator'" at 11.193,3.26 h1
Top Courtyard:
  lines w0.254: -8.13,-4.3 38.6,-4.3 38.6,5.3 -8.13,5.3 -8.13,-4.3
Top Designator:
  text ".Designator" at 7.617,0.197 h1.52

## PhoenixContact_MSTBV_2,5_7-GF-5,08_1x07_P5.08mm_Vertical_ThreadedFlange_MountHole [mm]
pads (9):
  rrect12% 2.08x3.6 hole 1.4: 1(0,0)
  rrect100% 2.08x3.6 hole 1.4: 2(5.08,0) 3(10.16,0) 4(15.24,0) 5(20.32,0) 6(25.4,0) 7(30.48,0)
  round 2.4 hole 2.4: Un1(-5.08,0) Un2(35.56,0)
F.SilkS:
  circle w0.254: c35.56,0 r1.9
  circle w0.254: c-5.08,0 r1.9
  lines w0.254: -7.73,4.1 -6.19,4.1 ; -4.08,4.1 -1,4.1 ; 1,4.1 4.08,4.1 ; 1.987,-2.216 cw(c0,-0.55) -2,-2.2 -2.74,-2.2 -2.74,3.1 33.22,3.1 33.22,-2.2 32.48,-2.2 ; 2,-2.2 3.08,-2.2 ccw(c5.08,-0.55) 7.067,-2.216 ; 6.08,4.1 9.16,4.1 ; 7.08,-2.2 8.16,-2.2 ccw(c10.16,-0.55) 12.147,-2.216 ; 11.16,4.1 14.24,4.1 ; 12.16,-2.2 13.24,-2.2 ccw(c15.24,-0.55) 17.227,-2.216 ; 16.24,4.1 19.32,4.1 ; 17.24,-2.2 18.32,-2.2 ccw(c20.32,-0.55) 22.307,-2.216 ; 21.32,4.1 24.4,4.1 ; 22.32,-2.2 23.4,-2.2 ccw(c25.4,-0.55) 27.387,-2.216 ; 26.4,4.1 29.48,4.1 ; 27.4,-2.2 28.48,-2.2 ccw(c30.48,-0.55) 32.467,-2.216 ; 31.48,4.1 34.56,4.1 ; 36.67,4.1 38.21,4.1 ; -7.73,-3.91 38.21,-3.91 38.21,4.91 -7.73,4.91 -7.73,-3.91 ; -6.08,3.1 -4.08,3.1 -4.08,4.91 -6.08,4.91 -6.08,3.1 ; -1,3.1 1,3.1 1,4.91 -1,4.91 -1,3.1 ; -0.3,5.71 0,5.11 0.3,5.71 -0.3,5.71 ; 4.08,3.1 6.08,3.1 6.08,4.91 4.08,4.91 4.08,3.1 ; 9.16,3.1 11.16,3.1 11.16,4.91 9.16,4.91 9.16,3.1 ; 14.24,3.1 16.24,3.1 16.24,4.91 14.24,4.91 14.24,3.1 ; 19.32,3.1 21.32,3.1 21.32,4.91 19.32,4.91 19.32,3.1 ; 24.4,3.1 26.4,3.1 26.4,4.91 24.4,4.91 24.4,3.1 ; 29.48,3.1 31.48,3.1 31.48,4.91 29.48,4.91 29.48,3.1 ; 34.56,3.1 36.56,3.1 36.56,4.91 34.56,4.91 34.56,3.1
B.SilkS:
  circle w0.254: c35.56,0 r2.21
  circle w0.254: c-5.08,0 r2.21
Top Assembly:
  lines w0.254: -7.62,-3.8 38.1,-3.8 38.1,4.8 -7.62,4.8 -7.62,-3.8 ; -0.5,3.55 0,2.55 0.5,3.55 -0.5,3.55
  text "'.Designator'" at 11.193,3.26 h1
Bottom Assembly:
  circle w0.254: c35.56,0 r2.1
  circle w0.254: c-5.08,0 r2.1
Top Courtyard:
  lines w0.254: -8.13,-4.3 38.6,-4.3 38.6,5.3 -8.13,5.3 -8.13,-4.3
Bottom Courtyard:
  circle w0.254: c35.56,0 r2.6
  circle w0.254: c-5.08,0 r2.6
Top Designator:
  text ".Designator" at 7.617,0.197 h1.52